# EAGLE library part HD44780_LCD (library 8BitCpuParts)
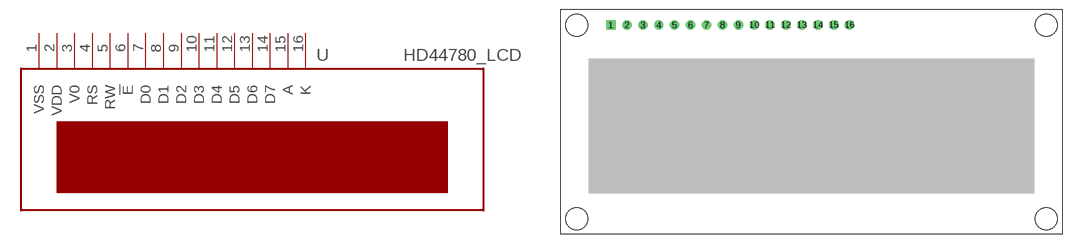
[diagram p2: symbol with the pads of HD44780_LCD; footprint HD44780_LCD]

Designator prefix -

## HD44780_LCD  [HD44780_LCD]
1  VSS
2  VDD
3  V0
4  RS
5  RW
6  !E
7  D0
8  D1
9  D2
10  D3
11  D4
12  D5
13  D6
14  D7
15  A
16  K

## Footprint HD44780_LCD (pad centres in mm)
drill 1 square: 1 -32,15.5
drill 1: 2 -29.46,15.5; 3 -26.92,15.5; 4 -24.38,15.5; 5 -21.84,15.5; 6 -19.3,15.5; 7 -16.76,15.5; 8 -14.22,15.5; 9 -11.68,15.5; 10 -9.14,15.5; 11 -6.6,15.5; 12 -4.06,15.5; 13 -1.52,15.5; 14 1.02,15.5; 15 3.56,15.5; 16 6.1,15.5
hole 3.5 at -37.5,15.5
hole 3.5 at 37.5,15.5
hole 3.5 at 37.5,-15.5
hole 3.5 at -37.5,-15.5